# EAGLE library part MOLEX_PLUG_8X0.4MM (library MOLEX)
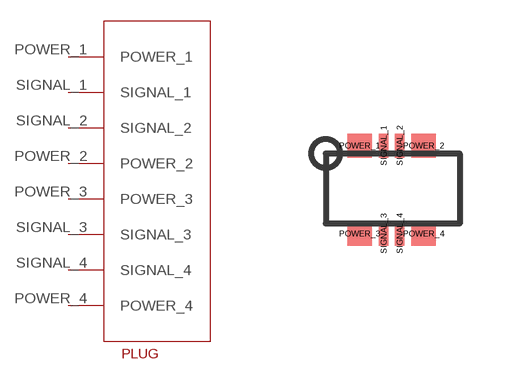
[diagram p0: symbol with the pads of PLUG; footprint PLUG]

Designator prefix -

## MOLEX_PLUG_8X0.4MM  [PLUG]
POWER_1  POWER_1
POWER_2  POWER_2
POWER_3  POWER_3
POWER_4  POWER_4
SIGNAL_1  SIGNAL_1
SIGNAL_2  SIGNAL_2
SIGNAL_3  SIGNAL_3
SIGNAL_4  SIGNAL_4

## Footprint PLUG (pad centres in mm)
smd 0.62 x 0.6: POWER_1 0,0; POWER_2 1.6,0; POWER_3 0,-2.2; POWER_4 1.6,-2.2
smd 0.24 x 0.6: SIGNAL_1 0.6,0; SIGNAL_2 1,0; SIGNAL_3 0.6,-2.2; SIGNAL_4 1,-2.2